# Altium footprint library PCB - LEADLESS - QFN - ANALOG DEVICES QFN-52 UKG 05-08-1729.PcbLib: 1 footprints
Each footprint in its own frame and in the unit in brackets; x right, y up, seen from the top. Pads: shape width x height; smd on the part's side, far side on the other; paste and mask are expansions set on the pad; w line width, h text height; cw(c..) or ccw(c..) is an arc to the next point about the centre after c.
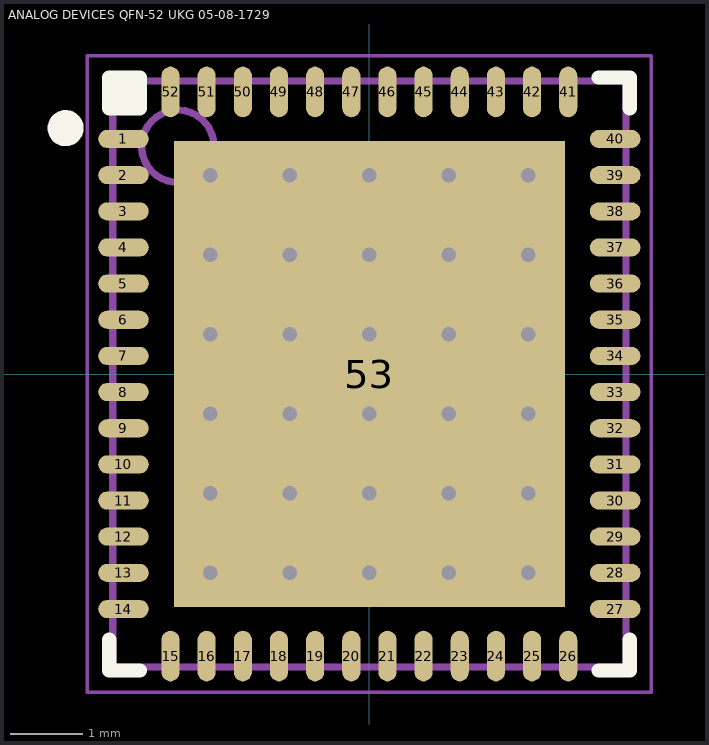
[diagram p0: the footprint, top view; thin cyan lines are the x and y axes]

## ANALOG DEVICES QFN-52 UKG 05-08-1729 [mm] "QFN, 52-Leads, Body 7.00x8.00mm, Pitch 0.50mm, Thermal Pad 5.41x6.45mm"
height 0.8
pads (53):
  oval 0.7x0.25 smd: 1(-3.4,3.25) 2(-3.4,2.75) 3(-3.4,2.25) 4(-3.4,1.75) 5(-3.4,1.25) 6(-3.4,0.75) 7(-3.4,0.25) 8(-3.4,-0.25) 9(-3.4,-0.75) 10(-3.4,-1.25) 11(-3.4,-1.75) 12(-3.4,-2.25) 13(-3.4,-2.75) 14(-3.4,-3.25) 27(3.4,-3.25) 28(3.4,-2.75) 29(3.4,-2.25) 30(3.4,-1.75) 31(3.4,-1.25) 32(3.4,-0.75) 33(3.4,-0.25) 34(3.4,0.25) 35(3.4,0.75) 36(3.4,1.25) 37(3.4,1.75) 38(3.4,2.25) 39(3.4,2.75) 40(3.4,3.25)
  oval 0.25x0.7 smd: 15(-2.75,-3.9) 16(-2.25,-3.9) 17(-1.75,-3.9) 18(-1.25,-3.9) 19(-0.75,-3.9) 20(-0.25,-3.9) 21(0.25,-3.9) 22(0.75,-3.9) 23(1.25,-3.9) 24(1.75,-3.9) 25(2.25,-3.9) 26(2.75,-3.9) 41(2.75,3.9) 42(2.25,3.9) 43(1.75,3.9) 44(1.25,3.9) 45(0.75,3.9) 46(0.25,3.9) 47(-0.25,3.9) 48(-0.75,3.9) 49(-1.25,3.9) 50(-1.75,3.9) 51(-2.25,3.9) 52(-2.75,3.9)
  rect 5.41x6.45 smd: 53(0,0)
via -2.2,2.75 diameter 0.5 hole 0.2
via -1.1,2.75 diameter 0.5 hole 0.2
via 0,2.75 diameter 0.5 hole 0.2
via 1.1,2.75 diameter 0.5 hole 0.2
via 2.2,2.75 diameter 0.5 hole 0.2
via -2.2,1.65 diameter 0.5 hole 0.2
via -1.1,1.65 diameter 0.5 hole 0.2
via 0,1.65 diameter 0.5 hole 0.2
via 1.1,1.65 diameter 0.5 hole 0.2
via 2.2,1.65 diameter 0.5 hole 0.2
via -2.2,0.55 diameter 0.5 hole 0.2
via -1.1,0.55 diameter 0.5 hole 0.2
via 0,0.55 diameter 0.5 hole 0.2
via 1.1,0.55 diameter 0.5 hole 0.2
via 2.2,0.55 diameter 0.5 hole 0.2
via -2.2,-0.55 diameter 0.5 hole 0.2
via -1.1,-0.55 diameter 0.5 hole 0.2
via 0,-0.55 diameter 0.5 hole 0.2
via 1.1,-0.55 diameter 0.5 hole 0.2
via 2.2,-0.55 diameter 0.5 hole 0.2
via -2.2,-1.65 diameter 0.5 hole 0.2
via -1.1,-1.65 diameter 0.5 hole 0.2
via 0,-1.65 diameter 0.5 hole 0.2
via 1.1,-1.65 diameter 0.5 hole 0.2
via 2.2,-1.65 diameter 0.5 hole 0.2
via -2.2,-2.75 diameter 0.5 hole 0.2
via -1.1,-2.75 diameter 0.5 hole 0.2
via 0,-2.75 diameter 0.5 hole 0.2
via 1.1,-2.75 diameter 0.5 hole 0.2
via 2.2,-2.75 diameter 0.5 hole 0.2
Top Overlay:
  circle w0.25: c-4.2,3.4 r0.125
  rectangle: -3.6,3.675 -3.175,4.1
  lines w0.2: -3.6,-3.675 -3.6,-4.1 -3.175,-4.1 ; 3.175,-4.1 3.6,-4.1 3.6,-3.675 ; 3.175,4.1 3.6,4.1 3.6,3.675 ; -3.6,3.675 -3.175,3.675 -3.175,4.1 -3.6,4.1 -3.6,3.675
Mechanical 13:
  circle w0.1: c-2.65,3.15 r0.5
  lines w0.1: -3.55,-4.05 -3.55,4.05 3.55,4.05 3.55,-4.05 -3.55,-4.05
Mechanical 15:
  lines w0.05: -3.9,-4.4 -3.9,4.4 3.9,4.4 3.9,-4.4 -3.9,-4.4
  lines w0.1: -0.5,0 0.5,0 ; 0,-0.5 0,0.5
3D body "ANALOG DEVICES QFN-52 UKG 05-08-1729.step": height 0.8, standoff 0, extent -3.56,-4.06 3.56,4.06